# Altium footprint library COF.PcbLib: 17 footprints (part 1 of 2)
Each footprint in its own frame and in the unit in brackets; x right, y up, seen from the top. Pads: shape width x height; smd on the part's side, far side on the other; paste and mask are expansions set on the pad; w line width, h text height; cw(c..) or ccw(c..) is an arc to the next point about the centre after c.
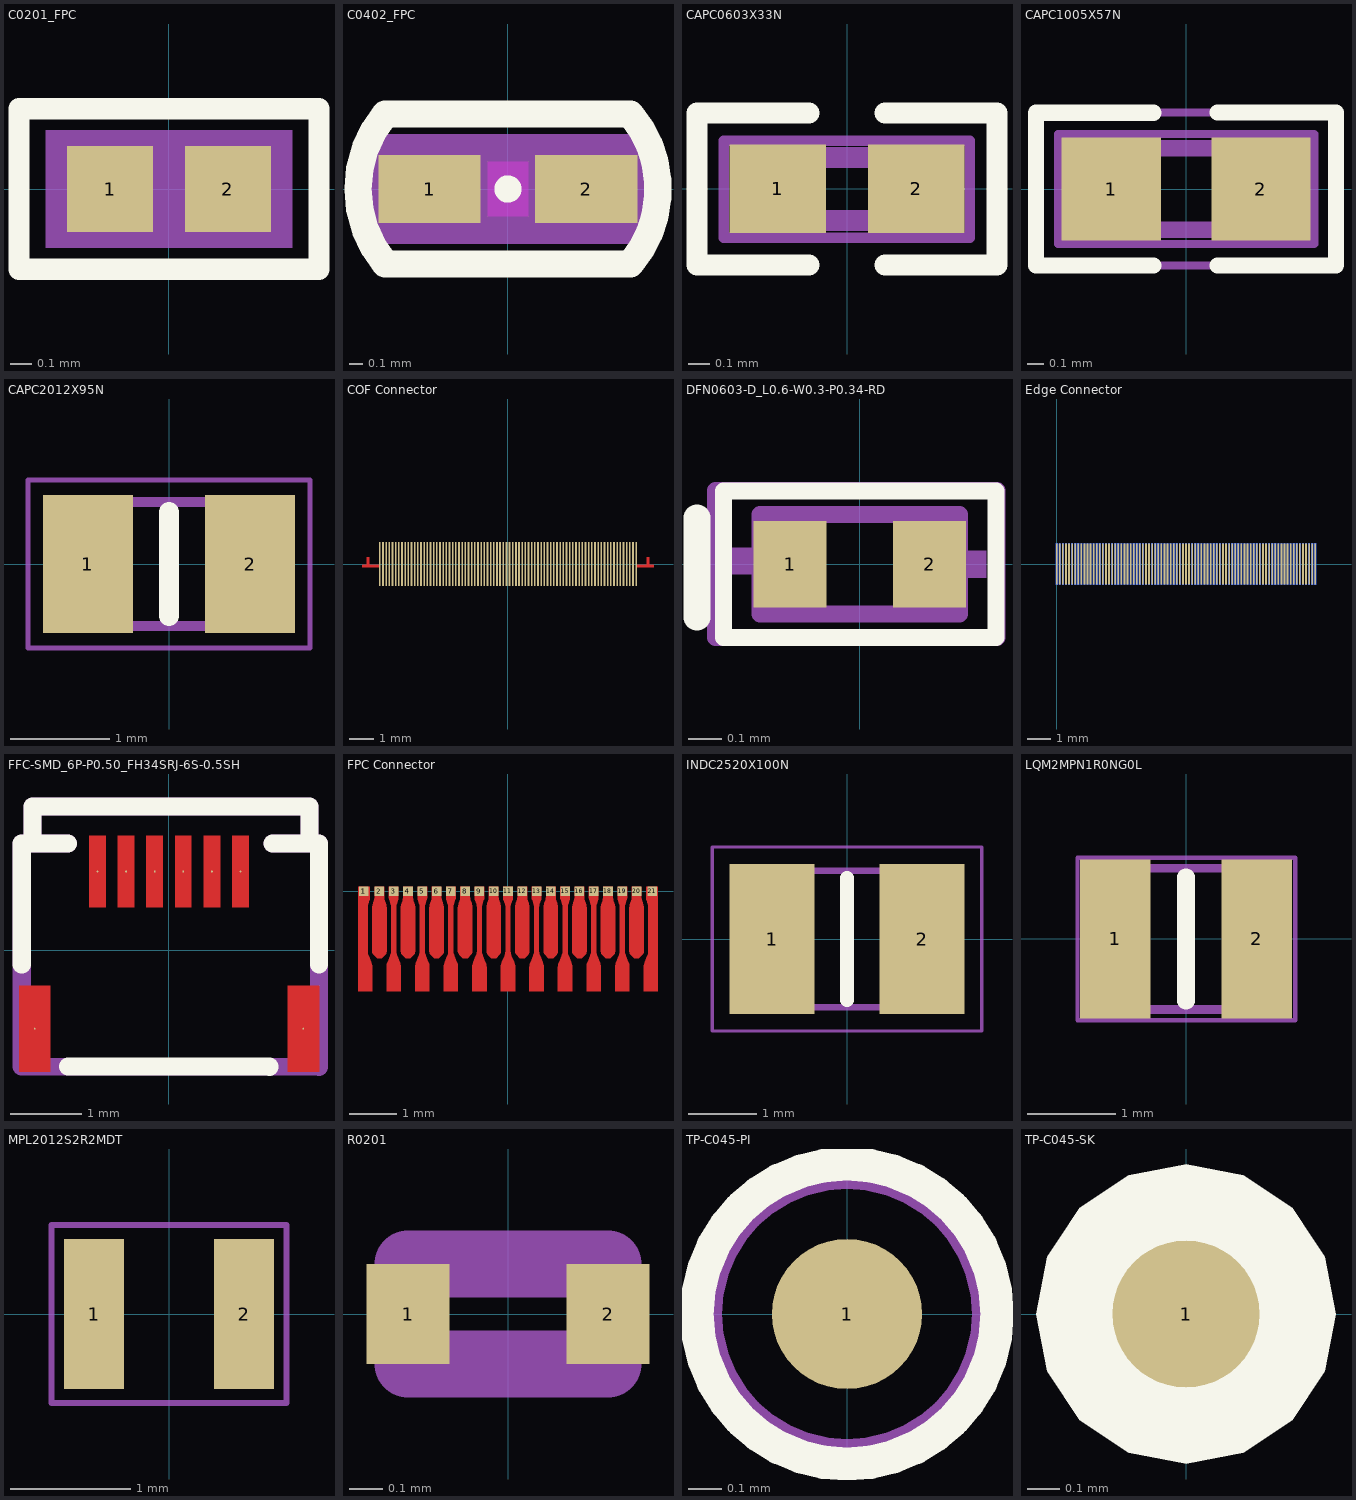
[diagram p0: the footprints below, top view; thin cyan lines are the x and y axes]

## C0201_FPC [mm] "C0201_FPC"
pads (2):
  rect 0.4x0.4 smd: 1(-0.275,0) 2(0.275,0)
Top Overlay:
  lines w0.1: -0.7,-0.375 -0.7,0.375 0.7,0.375 0.7,-0.375 -0.7,-0.375
Top 3D Body:
  region: -0.575,-0.275 -0.575,0.275 0.575,0.275 0.575,-0.275
Bottom 3D Body (Mech23):
  lines w0.05: -0.3,-0.15 0.3,-0.15 0.3,0.15 -0.3,0.15 -0.3,-0.15
  text "FC-TMCAP-0084" at -1.225,0.575 h0.6
  text "2.2uf/6.3V/X5R/0201" at -1.5,-1 h0.6
  text "?" at -1.4,1 h0.6
3D body: height 3.81, standoff 0, extent -0.575,-0.275 0.575,0.275

## C0402_FPC [mm] "C0402_FPC"
pads (2):
  rect 0.75x0.5 smd: 1(-0.575,0) 2(0.575,0)
Top Layer keep-out:
  region: -0.15,0.2 -0.15,-0.2 0.15,-0.2 0.15,0.2
Top Overlay:
  circle w0.1: c0,0 r0.05
  lines w0.2: -0.901,-0.55 cw(c-0.244,0) -0.901,0.55 0.899,0.55 cw(c0.249,0) 0.899,-0.55 -0.901,-0.55
Top 3D Body:
  region: -1.05,0.4 -1.05,-0.4 1.05,-0.4 1.05,0.4
Bottom 3D Body (Mech23):
  lines w0.05: -0.5,-0.25 0.5,-0.25 0.5,0.25 -0.5,0.25 -0.5,-0.25
  text "FC-CAP-4295" at -2.225,1.7 h0.6
  text "22uF/6.3V/X5R/0402" at -1.55,-1.1 h0.6
  text "?" at -1.4,1 h0.6
3D body: height 3.81, standoff 0, extent -1.05,-0.4 1.05,0.4

## CAPC0603X33N [mm]
pads (2):
  rect 0.46x0.42 smd: 1(-0.33,0) 2(0.33,0)
Top Overlay:
  lines w0.1: -0.182,-0.363 -0.714,-0.363 -0.714,0.361 -0.182,0.361 ; 0.181,-0.363 0.714,-0.363 0.714,0.361 0.181,0.361
Top Assembly:
  lines w0.05: -0.587,-0.234 -0.587,0.228 0.583,0.228 0.583,-0.234 -0.587,-0.234
  text ".Designator" at -1.013,0.38 h0.5
Top 3D Body (Mech13):
  lines w0.1: -0.3,-0.15 -0.3,0.15 0.3,0.15 0.3,-0.15 -0.3,-0.15
3D body "GRM033R61A105ME15E.stp": height 0.33, standoff 0, extent -0.3,-0.15 0.3,0.15

## CAPC1005X57N [mm]
pads (2):
  rect 0.61x0.63 smd: 1(-0.46,0) 2(0.46,0)
Top Overlay:
  lines w0.1: -0.199,-0.47 -0.921,-0.47 -0.921,0.468 -0.199,0.468 ; 0.193,-0.47 0.915,-0.47 ; 0.193,0.47 0.915,0.47 ; 0.921,-0.468 0.921,0.47
Top Assembly:
  lines w0.05: -0.786,-0.337 -0.786,0.338 0.788,0.338 0.788,-0.337 -0.786,-0.337
  text ".Designator" at -0.98,0.526 h0.5
Top 3D Body (Mech13):
  lines w0.1: -0.5,-0.25 -0.5,0.25 0.5,0.25 0.5,-0.25 -0.5,-0.25
Mechanical 15:
  lines w0.05: -0.915,-0.47 -0.915,0.47 0.915,0.47 0.915,-0.47 -0.915,-0.47
3D body "CL05A225MQ5NSNC.stp": height 0.57, standoff 0, extent -0.5,-0.25 0.5,0.25

## CAPC2012X95N [mm]
pads (2):
  rect 0.91x1.39 smd: 1(-0.82,0) 2(0.82,0)
Top Overlay:
  lines w0.2: 0,-0.525 0,0.525
Top 3D Body (Mech13):
  lines w0.1: -1,-0.625 -1,0.625 1,0.625 1,-0.625 -1,-0.625
Mechanical 15:
  lines w0.05: -1.425,-0.85 -1.425,0.85 1.425,0.85 1.425,-0.85 -1.425,-0.85
3D body "GRM219R61A105MA01D.stp": height 0.95, standoff 0, extent -1,-0.625 1,0.625

## COF Connector [mm]
pads (82):
  rect 0.07x1.8 smd: 1(-5.265,0) 2(-5.135,0) 3(-5.005,0) 4(-4.875,0) 5(-4.745,0) 6(-4.615,0) 7(-4.485,0) 8(-4.355,0) 9(-4.225,0) 10(-4.095,0) 11(-3.965,0) 12(-3.835,0) 13(-3.705,0) 14(-3.575,0) 15(-3.445,0) 16(-3.315,0) 17(-3.185,0) 18(-3.055,0) 19(-2.925,0) 20(-2.795,0) 21(-2.665,0) 22(-2.535,0) 23(-2.405,0) 24(-2.275,0) 25(-2.145,0) 26(-2.015,0) 27(-1.885,0) 28(-1.755,0) 29(-1.625,0) 30(-1.495,0) 31(-1.365,0) 32(-1.235,0) 33(-1.105,0) 34(-0.975,0) 35(-0.845,0) 36(-0.715,0) 37(-0.585,0) 38(-0.455,0) 39(-0.325,0) 40(-0.195,0) 41(-0.065,0) 42(0.065,0) 43(0.195,0) 44(0.325,0) 45(0.455,0) 46(0.585,0) 47(0.715,0) 48(0.845,0) 49(0.975,0) 50(1.105,0) 51(1.235,0) 52(1.365,0) 53(1.495,0) 54(1.625,0) 55(1.755,0) 56(1.885,0) 57(2.015,0) 58(2.145,0) 59(2.275,0) 60(2.405,0) 61(2.535,0) 62(2.665,0) 63(2.795,0) 64(2.925,0) 65(3.055,0) 66(3.185,0) 67(3.315,0) 68(3.445,0) 69(3.575,0) 70(3.705,0) 71(3.835,0) 72(3.965,0) 73(4.095,0) 74(4.225,0) 75(4.355,0) 76(4.485,0) 77(4.615,0) 78(4.745,0) 79(4.875,0) 80(5.005,0) 81(5.135,0) 82(5.265,0)
Top Layer:
  region: -5.3,-0.125 -5.3,-0.025 -5.7,-0.025 -5.7,0.275 -5.8,0.275 -5.8,-0.025 -6,-0.025 -6,-0.125
  region: 5.3,-0.125 5.3,-0.025 5.7,-0.025 5.7,0.275 5.8,0.275 5.8,-0.025 6,-0.025 6,-0.125

## DFN0603-D_L0.6-W0.3-P0.34-RD [mm]
pads (2):
  rect 0.22x0.26 smd paste+0 mask+0.051: 1(-0.21,0) 2(0.21,0)
Top Overlay:
  lines w0.051: -0.41,-0.22 0.41,-0.22 0.41,0.22 -0.41,0.22 -0.41,-0.22
  lines w0.08: -0.49,-0.16 -0.49,0.14
Top Assembly:
  region: 0.11,-0.04 0.11,0 0.11,0.04 0.17,0.04 0.31,0.04 0.38,0.04 0.38,0 0.38,-0.04
  region: 0.286,-0.126 0.246,-0.126 0.206,-0.126 0.206,-0.066 0.206,0.074 0.206,0.144 0.246,0.144 0.286,0.144
  region: -0.39,-0.03 -0.39,0.01 -0.39,0.05 -0.33,0.05 -0.19,0.05 -0.12,0.05 -0.12,0.01 -0.12,-0.03
  lines w0.051: -0.434,-0.221 0.413,-0.221 0.413,0.223 -0.434,0.223 -0.434,-0.221
  text ".Designator" at -0.434,0.317 h0.5
Mechanical 15:
  region: -0.27,-0.14 -0.271,-0.132 -0.282,-0.121 -0.298,-0.121 -0.309,-0.132 -0.31,-0.14 -0.309,-0.148 -0.298,-0.159 -0.282,-0.159 -0.271,-0.148 -0.27,-0.14
  region: 0.3,0.12 0.3,-0.12 0.15,-0.12 0.15,0.12
  region: -0.15,0.12 -0.15,-0.12 -0.3,-0.12 -0.3,0.12
  lines w0.051: -0.3,-0.15 -0.3,0.15 0.3,0.15 0.3,-0.15 -0.3,-0.15

## Edge Connector [mm]
pads (170):
  rect 0.07x1.75 smd: A1(0,0) A2(0.13,0) A3(0.26,0) A4(0.39,0) A5(0.52,0) A6(0.65,0) A7(0.78,0) A8(0.91,0) A9(1.04,0) A10(1.17,0) A11(1.3,0) A12(1.43,0) A13(1.56,0) A14(1.69,0) A15(1.82,0) A16(1.95,0) A17(2.08,0) A18(2.21,0) A19(2.34,0) A20(2.47,0) A21(2.6,0) A22(2.73,0) A23(2.86,0) A24(2.99,0) A25(3.12,0) A26(3.25,0) A27(3.38,0) A28(3.51,0) A29(3.64,0) A30(3.77,0) A31(3.9,0) A32(4.03,0) A33(4.16,0) A34(4.29,0) A35(4.42,0) A36(4.55,0) A37(4.68,0) A38(4.81,0) A39(4.94,0) A40(5.07,0) A41(5.2,0) A42(5.33,0) A43(5.46,0) A44(5.59,0) A45(5.72,0) A46(5.85,0) A47(5.98,0) A48(6.11,0) A49(6.24,0) A50(6.37,0) A51(6.5,0) A52(6.63,0) A53(6.76,0) A54(6.89,0) A55(7.02,0) A56(7.15,0) A57(7.28,0) A58(7.41,0) A59(7.54,0) A60(7.67,0) A61(7.8,0) A62(7.93,0) A63(8.06,0) A64(8.19,0) A65(8.32,0) A66(8.45,0) A67(8.58,0) A68(8.71,0) A69(8.84,0) A70(8.97,0) A71(9.1,0) A72(9.23,0) A73(9.36,0) A74(9.49,0) A75(9.62,0) A76(9.75,0) A77(9.88,0) A78(10.01,0) A79(10.14,0) A80(10.27,0) A81(10.4,0) A82(10.53,0) A83(10.66,0) A84(10.79,0) A85(10.92,0)
  rect 0.07x1.75 smd far side: B1(0,0) B3(0.26,0) B4(0.39,0) B5(0.52,0) B6(0.65,0) B7(0.78,0) B8(0.91,0) B9(1.04,0) B10(1.17,0) B11(1.3,0) B12(1.43,0) B13(1.56,0) B14(1.69,0) B15(1.82,0) B16(1.95,0) B17(2.08,0) B18(2.21,0) B19(2.34,0) B20(2.47,0) B21(2.6,0) B22(2.73,0) B23(2.86,0) B24(2.99,0) B25(3.12,0) B26(3.25,0) B27(3.38,0) B28(3.51,0) B29(3.64,0) B30(3.77,0) B31(3.9,0) B32(4.03,0) B33(4.16,0) B34(4.29,0) B35(4.42,0) B36(4.55,0) B37(4.68,0) B38(4.81,0) B39(4.94,0) B40(5.07,0) B41(5.2,0) B42(5.33,0) B43(5.46,0) B44(5.59,0) B45(5.72,0) B46(5.85,0) B47(5.98,0) B48(6.11,0) B49(6.24,0) B50(6.37,0) B51(6.5,0) B52(6.63,0) B53(6.76,0) B54(6.89,0) B55(7.02,0) B56(7.15,0) B57(7.28,0) B58(7.41,0) B59(7.54,0) B60(7.67,0) B61(7.8,0) B62(7.93,0) B63(8.06,0) B64(8.19,0) B65(8.32,0) B66(8.45,0) B67(8.58,0) B68(8.71,0) B69(8.84,0) B70(8.97,0) B71(9.1,0) B72(9.23,0) B73(9.36,0) B74(9.49,0) B75(9.62,0) B76(9.75,0) B77(9.88,0) B78(10.01,0) B79(10.14,0) B80(10.27,0) B81(10.4,0) B82(10.53,0) B83(10.66,0) B84(10.79,0) B85(10.92,0)
  oval 0.07x1.75 smd far side: B2(0.13,0)

## FFC-SMD_6P-P0.50_FH34SRJ-6S-0.5SH [mm]
pads (8):
  round 0.025 smd: 1(-1,1.1) 2(-0.6,1.1) 3(-0.2,1.1) 4(0.2,1.1) 5(0.6,1.1) 6(1,1.1) 7(-1.88,-1.1) 8(1.88,-1.1)
Top Layer:
  region: 2.1,-0.5 1.66,-0.5 1.66,-1.7 2.1,-1.7
  region: 1.115,1.6 0.885,1.6 0.885,0.6 1.115,0.6
  region: -0.085,1.6 -0.315,1.6 -0.315,0.6 -0.085,0.6
  region: -0.885,1.6 -1.115,1.6 -1.115,0.6 -0.885,0.6
  region: -0.485,1.6 -0.715,1.6 -0.715,0.6 -0.485,0.6
  region: 0.315,1.6 0.315,0.6 0.085,0.6 0.085,1.6
  region: -1.66,-0.5 -2.1,-0.5 -2.1,-1.7 -1.66,-1.7
  region: 0.715,1.6 0.485,1.6 0.485,0.6 0.715,0.6
Top Overlay:
  lines w0.254: -2.062,-0.2 -2.062,1.49 -1.412,1.49 ; -1.911,1.552 -1.911,2.01 1.968,2.01 1.968,1.552 ; -1.412,-1.63 1.405,-1.634 ; 1.448,1.49 2.098,1.49 2.098,-0.2
Top Assembly:
  lines w0.254: -1.911,1.552 -1.911,2.01 1.968,2.01 1.968,1.552 ; -1.412,1.49 -2.062,1.49 -2.062,-1.629 2.098,-1.635 2.098,1.49 1.448,1.49
  text ".Designator" at -1.434,0.317 h0.5

## FPC Connector [mm]
pads (22):
  rect 0.2x0.2 smd: 1(-3.025,0) 1(-3.025,0) 2(-2.7,0) 3(-2.4,0) 4(-2.1,0) 5(-1.8,0) 6(-1.5,0) 7(-1.2,0) 8(-0.9,0) 9(-0.6,0) 10(-0.3,0) 11(0,0) 12(0.3,0) 13(0.6,0) 14(0.9,0) 15(1.2,0) 16(1.5,0) 17(1.8,0) 18(2.1,0) 19(2.4,0) 20(2.7,0) 21(3.025,0)
Top Layer:
  region: 1.621,-1.329 1.628,-1.322 1.639,-1.306 1.646,-1.288 1.65,-1.268 1.65,-1.259 1.65,-0.349 1.65,-0.337 1.648,-0.313 1.644,-0.289 1.638,-0.265 1.635,-0.254 1.615,-0.196 1.612,-0.185 1.606,-0.161 1.602,-0.137 1.6,-0.113 1.6,-0.101 1.6,0.1 1.4,0.1 1.4,-0.101 1.4,-0.113 1.398,-0.137 1.394,-0.161 1.388,-0.185 1.385,-0.196 1.365,-0.254 1.362,-0.265 1.356,-0.289 1.352,-0.313 1.35,-0.337 1.35,-0.349 1.35,-1.259 1.35,-1.268 1.354,-1.288 1.361,-1.306 1.372,-1.322 1.379,-1.329 1.45,-1.4 1.55,-1.4
  region: 1.95,-2.1 1.95,-1.601 1.95,-1.586 1.947,-1.557 1.941,-1.528 1.933,-1.5 1.927,-1.486 1.873,-1.355 1.868,-1.341 1.859,-1.313 1.853,-1.284 1.85,-1.255 1.85,-1.24 1.85,-0.332 1.85,-0.324 1.851,-0.308 1.854,-0.293 1.858,-0.277 1.86,-0.269 1.895,-0.165 1.896,-0.162 1.898,-0.154 1.899,-0.146 1.9,-0.138 1.9,-0.134 1.9,0.1 1.7,0.1 1.7,-0.134 1.7,-0.138 1.701,-0.146 1.702,-0.154 1.704,-0.162 1.705,-0.165 1.74,-0.269 1.742,-0.277 1.746,-0.293 1.749,-0.308 1.75,-0.324 1.75,-0.332 1.75,-1.24 1.75,-1.255 1.747,-1.284 1.741,-1.313 1.732,-1.341 1.727,-1.355 1.673,-1.486 1.667,-1.5 1.659,-1.528 1.653,-1.557 1.65,-1.586 1.65,-1.601 1.65,-2.1
  region: 2.221,-1.329 2.228,-1.322 2.239,-1.306 2.246,-1.288 2.25,-1.268 2.25,-1.259 2.25,-0.349 2.25,-0.337 2.248,-0.313 2.244,-0.289 2.238,-0.265 2.235,-0.254 2.215,-0.196 2.212,-0.185 2.206,-0.161 2.202,-0.137 2.2,-0.113 2.2,-0.101 2.2,0.1 2,0.1 2,-0.101 2,-0.113 1.998,-0.137 1.994,-0.161 1.988,-0.185 1.985,-0.196 1.965,-0.254 1.962,-0.265 1.956,-0.289 1.952,-0.313 1.95,-0.337 1.95,-0.349 1.95,-1.259 1.95,-1.268 1.954,-1.288 1.961,-1.306 1.972,-1.322 1.979,-1.329 2.05,-1.4 2.15,-1.4
  region: 2.821,-1.329 2.828,-1.322 2.839,-1.306 2.846,-1.288 2.85,-1.268 2.85,-1.259 2.85,-0.349 2.85,-0.337 2.848,-0.313 2.844,-0.289 2.838,-0.265 2.835,-0.254 2.815,-0.196 2.812,-0.185 2.806,-0.161 2.802,-0.137 2.8,-0.113 2.8,-0.101 2.8,0.1 2.6,0.1 2.6,-0.101 2.6,-0.113 2.598,-0.137 2.594,-0.161 2.588,-0.185 2.585,-0.196 2.565,-0.254 2.562,-0.265 2.556,-0.289 2.552,-0.313 2.55,-0.337 2.55,-0.349 2.55,-1.259 2.55,-1.268 2.554,-1.288 2.561,-1.306 2.572,-1.322 2.579,-1.329 2.65,-1.4 2.75,-1.4
  region: 2.55,-2.1 2.55,-1.601 2.55,-1.586 2.547,-1.557 2.541,-1.528 2.533,-1.5 2.527,-1.486 2.473,-1.355 2.468,-1.341 2.459,-1.313 2.453,-1.284 2.45,-1.255 2.45,-1.24 2.45,-0.332 2.45,-0.324 2.451,-0.308 2.454,-0.293 2.458,-0.277 2.46,-0.269 2.495,-0.165 2.496,-0.162 2.498,-0.154 2.499,-0.146 2.5,-0.138 2.5,-0.134 2.5,0.1 2.3,0.1 2.3,-0.134 2.3,-0.138 2.301,-0.146 2.302,-0.154 2.304,-0.162 2.305,-0.165 2.34,-0.269 2.342,-0.277 2.346,-0.293 2.349,-0.308 2.35,-0.324 2.35,-0.332 2.35,-1.24 2.35,-1.255 2.347,-1.284 2.341,-1.313 2.332,-1.341 2.327,-1.355 2.273,-1.486 2.267,-1.5 2.259,-1.528 2.253,-1.557 2.25,-1.586 2.25,-1.601 2.25,-2.1
  region: 3.15,-2.1 3.15,0.1 2.9,0.1 2.9,-0.118 2.9,-0.126 2.901,-0.142 2.904,-0.158 2.908,-0.173 2.91,-0.181 2.94,-0.269 2.942,-0.277 2.946,-0.293 2.949,-0.308 2.95,-0.324 2.95,-0.332 2.95,-1.24 2.95,-1.255 2.947,-1.284 2.941,-1.313 2.932,-1.341 2.927,-1.355 2.873,-1.486 2.867,-1.5 2.859,-1.528 2.853,-1.557 2.85,-1.586 2.85,-1.601 2.85,-2.1
  region: -0.45,-2.1 -0.45,-1.601 -0.45,-1.586 -0.453,-1.557 -0.459,-1.528 -0.467,-1.5 -0.473,-1.486 -0.527,-1.355 -0.532,-1.341 -0.541,-1.313 -0.547,-1.284 -0.55,-1.255 -0.55,-1.24 -0.55,-0.332 -0.55,-0.324 -0.549,-0.308 -0.546,-0.293 -0.542,-0.277 -0.54,-0.269 -0.505,-0.165 -0.504,-0.162 -0.502,-0.154 -0.501,-0.146 -0.5,-0.138 -0.5,-0.134 -0.5,0.1 -0.7,0.1 -0.7,-0.134 -0.7,-0.138 -0.699,-0.146 -0.698,-0.154 -0.696,-0.162 -0.695,-0.165 -0.66,-0.269 -0.658,-0.277 -0.654,-0.293 -0.651,-0.308 -0.65,-0.324 -0.65,-0.332 -0.65,-1.24 -0.65,-1.255 -0.653,-1.284 -0.659,-1.313 -0.668,-1.341 -0.673,-1.355 -0.727,-1.486 -0.733,-1.5 -0.741,-1.528 -0.747,-1.557 -0.75,-1.586 -0.75,-1.601 -0.75,-2.1
  region: 0.15,-2.1 0.15,-1.601 0.15,-1.586 0.147,-1.557 0.141,-1.528 0.133,-1.5 0.127,-1.486 0.073,-1.355 0.068,-1.341 0.059,-1.313 0.053,-1.284 0.05,-1.255 0.05,-1.24 0.05,-0.332 0.05,-0.324 0.051,-0.308 0.054,-0.293 0.058,-0.277 0.06,-0.269 0.095,-0.165 0.096,-0.162 0.098,-0.154 0.099,-0.146 0.1,-0.138 0.1,-0.134 0.1,0.1 -0.1,0.1 -0.1,-0.134 -0.1,-0.138 -0.099,-0.146 -0.098,-0.154 -0.096,-0.162 -0.095,-0.165 -0.06,-0.269 -0.058,-0.277 -0.054,-0.293 -0.051,-0.308 -0.05,-0.324 -0.05,-0.332 -0.05,-1.24 -0.05,-1.255 -0.053,-1.284 -0.059,-1.313 -0.068,-1.341 -0.073,-1.355 -0.127,-1.486 -0.133,-1.5 -0.141,-1.528 -0.147,-1.557 -0.15,-1.586 -0.15,-1.601 -0.15,-2.1
  region: 0.421,-1.329 0.428,-1.322 0.439,-1.306 0.446,-1.288 0.45,-1.268 0.45,-1.259 0.45,-0.349 0.45,-0.337 0.448,-0.313 0.444,-0.289 0.438,-0.265 0.435,-0.254 0.415,-0.196 0.412,-0.185 0.406,-0.161 0.402,-0.137 0.4,-0.113 0.4,-0.101 0.4,0.1 0.2,0.1 0.2,-0.101 0.2,-0.113 0.198,-0.137 0.194,-0.161 0.188,-0.185 0.185,-0.196 0.165,-0.254 0.162,-0.265 0.156,-0.289 0.152,-0.313 0.15,-0.337 0.15,-0.349 0.15,-1.259 0.15,-1.268 0.154,-1.288 0.161,-1.306 0.172,-1.322 0.179,-1.329 0.25,-1.4 0.35,-1.4
  region: 0.75,-2.1 0.75,-1.601 0.75,-1.586 0.747,-1.557 0.741,-1.528 0.733,-1.5 0.727,-1.486 0.673,-1.355 0.668,-1.341 0.659,-1.313 0.653,-1.284 0.65,-1.255 0.65,-1.24 0.65,-0.332 0.65,-0.324 0.651,-0.308 0.654,-0.293 0.658,-0.277 0.66,-0.269 0.695,-0.165 0.696,-0.162 0.698,-0.154 0.699,-0.146 0.7,-0.138 0.7,-0.134 0.7,0.1 0.5,0.1 0.5,-0.134 0.5,-0.138 0.501,-0.146 0.502,-0.154 0.504,-0.162 0.505,-0.165 0.54,-0.269 0.542,-0.277 0.546,-0.293 0.549,-0.308 0.55,-0.324 0.55,-0.332 0.55,-1.24 0.55,-1.255 0.547,-1.284 0.541,-1.313 0.532,-1.341 0.527,-1.355 0.473,-1.486 0.467,-1.5 0.459,-1.528 0.453,-1.557 0.45,-1.586 0.45,-1.601 0.45,-2.1
  region: 1.021,-1.329 1.028,-1.322 1.039,-1.306 1.046,-1.288 1.05,-1.268 1.05,-1.259 1.05,-0.349 1.05,-0.337 1.048,-0.313 1.044,-0.289 1.038,-0.265 1.035,-0.254 1.015,-0.196 1.012,-0.185 1.006,-0.161 1.002,-0.137 1,-0.113 1,-0.101 1,0.1 0.8,0.1 0.8,-0.101 0.8,-0.113 0.798,-0.137 0.794,-0.161 0.788,-0.185 0.785,-0.196 0.765,-0.254 0.762,-0.265 0.756,-0.289 0.752,-0.313 0.75,-0.337 0.75,-0.349 0.75,-1.259 0.75,-1.268 0.754,-1.288 0.761,-1.306 0.772,-1.322 0.779,-1.329 0.85,-1.4 0.95,-1.4
  region: 1.35,-2.1 1.35,-1.601 1.35,-1.586 1.347,-1.557 1.341,-1.528 1.333,-1.5 1.327,-1.486 1.273,-1.355 1.268,-1.341 1.259,-1.313 1.253,-1.284 1.25,-1.255 1.25,-1.24 1.25,-0.332 1.25,-0.324 1.251,-0.308 1.254,-0.293 1.258,-0.277 1.26,-0.269 1.295,-0.165 1.296,-0.162 1.298,-0.154 1.299,-0.146 1.3,-0.138 1.3,-0.134 1.3,0.1 1.1,0.1 1.1,-0.134 1.1,-0.138 1.101,-0.146 1.102,-0.154 1.104,-0.162 1.105,-0.165 1.14,-0.269 1.142,-0.277 1.146,-0.293 1.149,-0.308 1.15,-0.324 1.15,-0.332 1.15,-1.24 1.15,-1.255 1.147,-1.284 1.141,-1.313 1.132,-1.341 1.127,-1.355 1.073,-1.486 1.067,-1.5 1.059,-1.528 1.053,-1.557 1.05,-1.586 1.05,-1.601 1.05,-2.1
  region: -0.179,-1.329 -0.172,-1.322 -0.161,-1.306 -0.154,-1.288 -0.15,-1.268 -0.15,-1.259 -0.15,-0.349 -0.15,-0.337 -0.152,-0.313 -0.156,-0.289 -0.162,-0.265 -0.165,-0.254 -0.185,-0.196 -0.188,-0.185 -0.194,-0.161 -0.198,-0.137 -0.2,-0.113 -0.2,-0.101 -0.2,0.1 -0.4,0.1 -0.4,-0.101 -0.4,-0.113 -0.402,-0.137 -0.406,-0.161 -0.412,-0.185 -0.415,-0.196 -0.435,-0.254 -0.438,-0.265 -0.444,-0.289 -0.448,-0.313 -0.45,-0.337 -0.45,-0.349 -0.45,-1.259 -0.45,-1.268 -0.446,-1.288 -0.439,-1.306 -0.428,-1.322 -0.421,-1.329 -0.35,-1.4 -0.25,-1.4
  region: -2.25,-2.1 -2.25,-1.601 -2.25,-1.586 -2.253,-1.557 -2.259,-1.528 -2.267,-1.5 -2.273,-1.486 -2.327,-1.355 -2.332,-1.341 -2.341,-1.313 -2.347,-1.284 -2.35,-1.255 -2.35,-1.24 -2.35,-0.332 -2.35,-0.324 -2.349,-0.308 -2.346,-0.293 -2.342,-0.277 -2.34,-0.269 -2.305,-0.165 -2.304,-0.162 -2.302,-0.154 -2.301,-0.146 -2.3,-0.138 -2.3,-0.134 -2.3,0.1 -2.5,0.1 -2.5,-0.134 -2.5,-0.138 -2.499,-0.146 -2.498,-0.154 -2.496,-0.162 -2.495,-0.165 -2.46,-0.269 -2.458,-0.277 -2.454,-0.293 -2.451,-0.308 -2.45,-0.324 -2.45,-0.332 -2.45,-1.24 -2.45,-1.255 -2.453,-1.284 -2.459,-1.313 -2.468,-1.341 -2.473,-1.355 -2.527,-1.486 -2.533,-1.5 -2.541,-1.528 -2.547,-1.557 -2.55,-1.586 -2.55,-1.601 -2.55,-2.1
  region: -1.979,-1.329 -1.972,-1.322 -1.961,-1.306 -1.954,-1.288 -1.95,-1.268 -1.95,-1.259 -1.95,-0.349 -1.95,-0.337 -1.952,-0.313 -1.956,-0.289 -1.962,-0.265 -1.965,-0.254 -1.985,-0.196 -1.988,-0.185 -1.994,-0.161 -1.998,-0.137 -2,-0.113 -2,-0.101 -2,0.1 -2.2,0.1 -2.2,-0.101 -2.2,-0.113 -2.202,-0.137 -2.206,-0.161 -2.212,-0.185 -2.215,-0.196 -2.235,-0.254 -2.238,-0.265 -2.244,-0.289 -2.248,-0.313 -2.25,-0.337 -2.25,-0.349 -2.25,-1.259 -2.25,-1.268 -2.246,-1.288 -2.239,-1.306 -2.228,-1.322 -2.221,-1.329 -2.15,-1.4 -2.05,-1.4
  region: -1.65,-2.1 -1.65,-1.601 -1.65,-1.586 -1.653,-1.557 -1.659,-1.528 -1.667,-1.5 -1.673,-1.486 -1.727,-1.355 -1.732,-1.341 -1.741,-1.313 -1.747,-1.284 -1.75,-1.255 -1.75,-1.24 -1.75,-0.332 -1.75,-0.324 -1.749,-0.308 -1.746,-0.293 -1.742,-0.277 -1.74,-0.269 -1.705,-0.165 -1.704,-0.162 -1.702,-0.154 -1.701,-0.146 -1.7,-0.138 -1.7,-0.134 -1.7,0.1 -1.9,0.1 -1.9,-0.134 -1.9,-0.138 -1.899,-0.146 -1.898,-0.154 -1.896,-0.162 -1.895,-0.165 -1.86,-0.269 -1.858,-0.277 -1.854,-0.293 -1.851,-0.308 -1.85,-0.324 -1.85,-0.332 -1.85,-1.24 -1.85,-1.255 -1.853,-1.284 -1.859,-1.313 -1.868,-1.341 -1.873,-1.355 -1.927,-1.486 -1.933,-1.5 -1.941,-1.528 -1.947,-1.557 -1.95,-1.586 -1.95,-1.601 -1.95,-2.1
  region: -1.379,-1.329 -1.372,-1.322 -1.361,-1.306 -1.354,-1.288 -1.35,-1.268 -1.35,-1.259 -1.35,-0.349 -1.35,-0.337 -1.352,-0.313 -1.356,-0.289 -1.362,-0.265 -1.365,-0.254 -1.385,-0.196 -1.388,-0.185 -1.394,-0.161 -1.398,-0.137 -1.4,-0.113 -1.4,-0.101 -1.4,0.1 -1.6,0.1 -1.6,-0.101 -1.6,-0.113 -1.602,-0.137 -1.606,-0.161 -1.612,-0.185 -1.615,-0.196 -1.635,-0.254 -1.638,-0.265 -1.644,-0.289 -1.648,-0.313 -1.65,-0.337 -1.65,-0.349 -1.65,-1.259 -1.65,-1.268 -1.646,-1.288 -1.639,-1.306 -1.628,-1.322 -1.621,-1.329 -1.55,-1.4 -1.45,-1.4
  region: -1.05,-2.1 -1.05,-1.601 -1.05,-1.586 -1.053,-1.557 -1.059,-1.528 -1.067,-1.5 -1.073,-1.486 -1.127,-1.355 -1.132,-1.341 -1.141,-1.313 -1.147,-1.284 -1.15,-1.255 -1.15,-1.24 -1.15,-0.332 -1.15,-0.324 -1.149,-0.308 -1.146,-0.293 -1.142,-0.277 -1.14,-0.269 -1.105,-0.165 -1.104,-0.162 -1.102,-0.154 -1.101,-0.146 -1.1,-0.138 -1.1,-0.134 -1.1,0.1 -1.3,0.1 -1.3,-0.134 -1.3,-0.138 -1.299,-0.146 -1.298,-0.154 -1.296,-0.162 -1.295,-0.165 -1.26,-0.269 -1.258,-0.277 -1.254,-0.293 -1.251,-0.308 -1.25,-0.324 -1.25,-0.332 -1.25,-1.24 -1.25,-1.255 -1.253,-1.284 -1.259,-1.313 -1.268,-1.341 -1.273,-1.355 -1.327,-1.486 -1.333,-1.5 -1.341,-1.528 -1.347,-1.557 -1.35,-1.586 -1.35,-1.601 -1.35,-2.1
  region: -0.779,-1.329 -0.772,-1.322 -0.761,-1.306 -0.754,-1.288 -0.75,-1.268 -0.75,-1.259 -0.75,-0.349 -0.75,-0.337 -0.752,-0.313 -0.756,-0.289 -0.762,-0.265 -0.765,-0.254 -0.785,-0.196 -0.788,-0.185 -0.794,-0.161 -0.798,-0.137 -0.8,-0.113 -0.8,-0.101 -0.8,0.1 -1,0.1 -1,-0.101 -1,-0.113 -1.002,-0.137 -1.006,-0.161 -1.012,-0.185 -1.015,-0.196 -1.035,-0.254 -1.038,-0.265 -1.044,-0.289 -1.048,-0.313 -1.05,-0.337 -1.05,-0.349 -1.05,-1.259 -1.05,-1.268 -1.046,-1.288 -1.039,-1.306 -1.028,-1.322 -1.021,-1.329 -0.95,-1.4 -0.85,-1.4
  region: -2.85,-2.1 -2.85,-1.601 -2.85,-1.586 -2.853,-1.557 -2.859,-1.528 -2.867,-1.5 -2.873,-1.486 -2.927,-1.355 -2.932,-1.341 -2.941,-1.313 -2.947,-1.284 -2.95,-1.255 -2.95,-1.24 -2.95,-0.332 -2.95,-0.324 -2.949,-0.308 -2.946,-0.293 -2.942,-0.277 -2.94,-0.269 -2.91,-0.181 -2.908,-0.173 -2.904,-0.158 -2.901,-0.142 -2.9,-0.126 -2.9,-0.118 -2.9,0.1 -3.15,0.1 -3.15,-2.1
  region: -2.579,-1.329 -2.572,-1.322 -2.561,-1.306 -2.554,-1.288 -2.55,-1.268 -2.55,-1.259 -2.55,-0.349 -2.55,-0.337 -2.552,-0.313 -2.556,-0.289 -2.562,-0.265 -2.565,-0.254 -2.585,-0.196 -2.588,-0.185 -2.594,-0.161 -2.598,-0.137 -2.6,-0.113 -2.6,-0.101 -2.6,0.1 -2.8,0.1 -2.8,-0.101 -2.8,-0.113 -2.802,-0.137 -2.806,-0.161 -2.812,-0.185 -2.815,-0.196 -2.835,-0.254 -2.838,-0.265 -2.844,-0.289 -2.848,-0.313 -2.85,-0.337 -2.85,-0.349 -2.85,-1.259 -2.85,-1.268 -2.846,-1.288 -2.839,-1.306 -2.828,-1.322 -2.821,-1.329 -2.75,-1.4 -2.65,-1.4

## INDC2520X100N [mm]
pads (2):
  rect 1.25x2.2 smd: 1(-1.1,0) 2(1.1,0)
Top Overlay:
  lines w0.2: 0,-0.9 0,0.9
Top 3D Body (Mech13):
  lines w0.1: -1.25,-1 -1.25,1 1.25,1 1.25,-1 -1.25,-1
Mechanical 15:
  lines w0.05: -1.975,-1.35 -1.975,1.35 1.975,1.35 1.975,-1.35 -1.975,-1.35
3D body "LQM2HPN2R2MG0L.stp": height 1, standoff 0, extent -1.25,-1 1.25,1

## LQM2MPN1R0NG0L [mm]
pads (2):
  rect 0.8x1.8 smd: 1(-0.8,0) 2(0.8,0)
Top Overlay:
  lines w0.2: 0,-0.7 0,0.7
Top Assembly:
  lines w0.05: -1.23,-0.921 -1.23,0.917 1.238,0.917 1.238,-0.921 -1.23,-0.921
  text ".Designator" at -1.229,1.06 h0.5
Top 3D Body (Mech13):
  lines w0.1: -1,-0.8 -1,0.8 1,0.8 1,-0.8 -1,-0.8
3D body "LQM2MPN4R7MG0L.stp": height 0.9, standoff 0, extent -1,-0.8 1,0.8

## MPL2012S2R2MDT [mm]
height 0.55
pads (2):
  rect 0.5x1.25 smd: 1(-0.625,0) 2(0.625,0)
Top Assembly:
  lines w0.05: -0.979,-0.739 -0.979,0.742 0.981,0.742 0.981,-0.739 -0.979,-0.739
  text ".Designator" at -1.013,0.866 h0.5

## R0201 [mm]
pads (2):
  rect 0.25x0.3 smd: 1(-0.3,0) 2(0.3,0)
Top 3D Body (Mech13):
  lines w0.2: -0.3,-0.15 -0.3,0.15 0.3,0.15 0.3,-0.15 -0.3,-0.15
3D body "ERJ-1GNF1002C.stp": height 0.23, standoff 0, extent -0.3,-0.15 0.3,0.15

## TP-C045-PI [mm] "TP-C045-PI"
pads (1):
  round 0.45 smd: 1(0,0)
Top Overlay:
  lines w0.1: -0.45,0 ccw(c0,0) 0,-0.45 ccw(c0,0) 0.45,0 ccw(c0,0) 0,0.45 ccw(c0,0) -0.45,0
Top Assembly:
  lines w0.05: -0.4,0 ccw(c0,0) 0,-0.4 ccw(c0,0) 0.4,0 ccw(c0,0) 0,0.4 ccw(c0,0) -0.4,0
  text ".Designator" at -0.9,0.6 h0.5

## TP-C045-SK [mm] "TP-C045-SK"
pads (1):
  round 0.45 smd: 1(0,0)
Top Overlay:
  dashed: 0,-0.459 0.176,-0.424 0.324,-0.324 0.424,-0.176 0.459,0 0.424,0.176 0.391,0.225 0.324,0.324 0.176,0.424 0,0.459 -0.176,0.424 -0.324,0.324 -0.391,0.225 -0.424,0.176 -0.459,0 -0.424,-0.176 -0.324,-0.324 -0.176,-0.424
Top 3D Body:
  region: 0,-0.408 0.156,-0.377 0.288,-0.288 0.377,-0.156 0.408,0 0.377,0.156 0.347,0.2 0.288,0.288 0.156,0.377 0,0.408 -0.156,0.377 -0.288,0.288 -0.347,0.2 -0.377,0.156 -0.408,0 -0.377,-0.156 -0.288,-0.288 -0.156,-0.377
Bottom 3D Body (Mech23):
  lines w0.05: -0.4,0 ccw(c0,0) 0,-0.4 ccw(c0,0) 0.4,0 ccw(c0,0) 0,0.4 ccw(c0,0) -0.4,0
  text "?" at -1.5,1.6 h0.6
  text "fpc 0.45 testpoint" at -1.7,1 h0.6
  text "FC-CON-0221" at -2,-0.1 h0.6
3D body: height 3.81, standoff 0, extent -0.408,-0.408 0.408,0.408